# EAGLE library part 2X16 (library PiB_connectors)
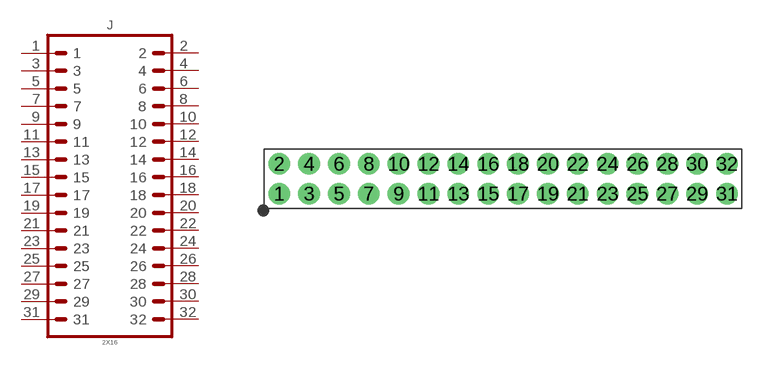
[diagram p17: symbol with the pads of HDRV32W64P254_2X16_4064X508X838B; footprint HDRV32W64P254_2X16_4064X508X838B]

Designator prefix J

## 2X16_PTH_VERT_MALE_2.54MM (DATASHEET: https://drawings-pdf.s3.amazonaws.com/C10419.pdf; DIST: Digikey; DISTLINK: https://www.digikey.com/products/en?keywords=S2012E-16-ND; DISTPN: S2012E-16-ND; MFR: Sullins Connector Solutions; MPN: PEC16DAAN; VALUE: PTH VERT MALE)  [HDRV32W64P254_2X16_4064X508X838B]
1  1  pas
2  2  pas
3  3  pas
4  4  pas
5  5  pas
6  6  pas
7  7  pas
8  8  pas
9  9  pas
10  10  pas
11  11  pas
12  12  pas
13  13  pas
14  14  pas
15  15  pas
16  16  pas
17  17  pas
18  18  pas
19  19  pas
20  20  pas
21  21  pas
22  22  pas
23  23  pas
24  24  pas
25  25  pas
26  26  pas
27  27  pas
28  28  pas
29  29  pas
30  30  pas
31  31  pas
32  32  pas

## Footprint HDRV32W64P254_2X16_4064X508X838B (pad centres in mm)
Double-row, 32-pin Pin Header (Male) Straight, 2.54 mm (0.10 in) row pitch, 2.54 mm (0.10 in) col pitch, 5.84 mm mating length, 40.64 X 5.08 X 8.38 mm body Double-row (2X16), 32-pin Pin Header (Male) Straight package with 2.54 mm (0.10 in) row pitch, 2.54 mm (0.10 in) col pitch, 0.64 mm lead width, 3.05 mm tail length and 5.84 mm mating length with overall size 40.64 X 5.08 X 8.38 mm, pin pattern - zigzag from bottom left
drill 1 pad 1.85: 1 -19.05,-1.27; 2 -19.05,1.27; 3 -16.51,-1.27; 4 -16.51,1.27; 5 -13.97,-1.27; 6 -13.97,1.27; 7 -11.43,-1.27; 8 -11.43,1.27; 9 -8.89,-1.27; 10 -8.89,1.27; 11 -6.35,-1.27; 12 -6.35,1.27; 13 -3.81,-1.27; 14 -3.81,1.27; 15 -1.27,-1.27; 16 -1.27,1.27; 17 1.27,-1.27; 18 1.27,1.27; 19 3.81,-1.27; 20 3.81,1.27; 21 6.35,-1.27; 22 6.35,1.27; 23 8.89,-1.27; 24 8.89,1.27; 25 11.43,-1.27; 26 11.43,1.27; 27 13.97,-1.27; 28 13.97,1.27; 29 16.51,-1.27; 30 16.51,1.27; 31 19.05,-1.27; 32 19.05,1.27